# Altium schematic symbol library SMBJ_TVS-Symbol.SchLib: 1 symbol
Pins are listed as number, name and electrical type; pins without a type are passive.

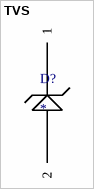
[diagram p0: symbol TVS]

## TVS
designator D?
SMBJ TVS Diode
footprint SMBJ_TVS-footprint
pins: ?1 1, ?2 2